# Altium footprint library MCU.PcbLib: 13 footprints
Each footprint in its own frame and in the unit in brackets; x right, y up, seen from the top. Pads: shape width x height; smd on the part's side, far side on the other; paste and mask are expansions set on the pad; w line width, h text height; cw(c..) or ccw(c..) is an arc to the next point about the centre after c.
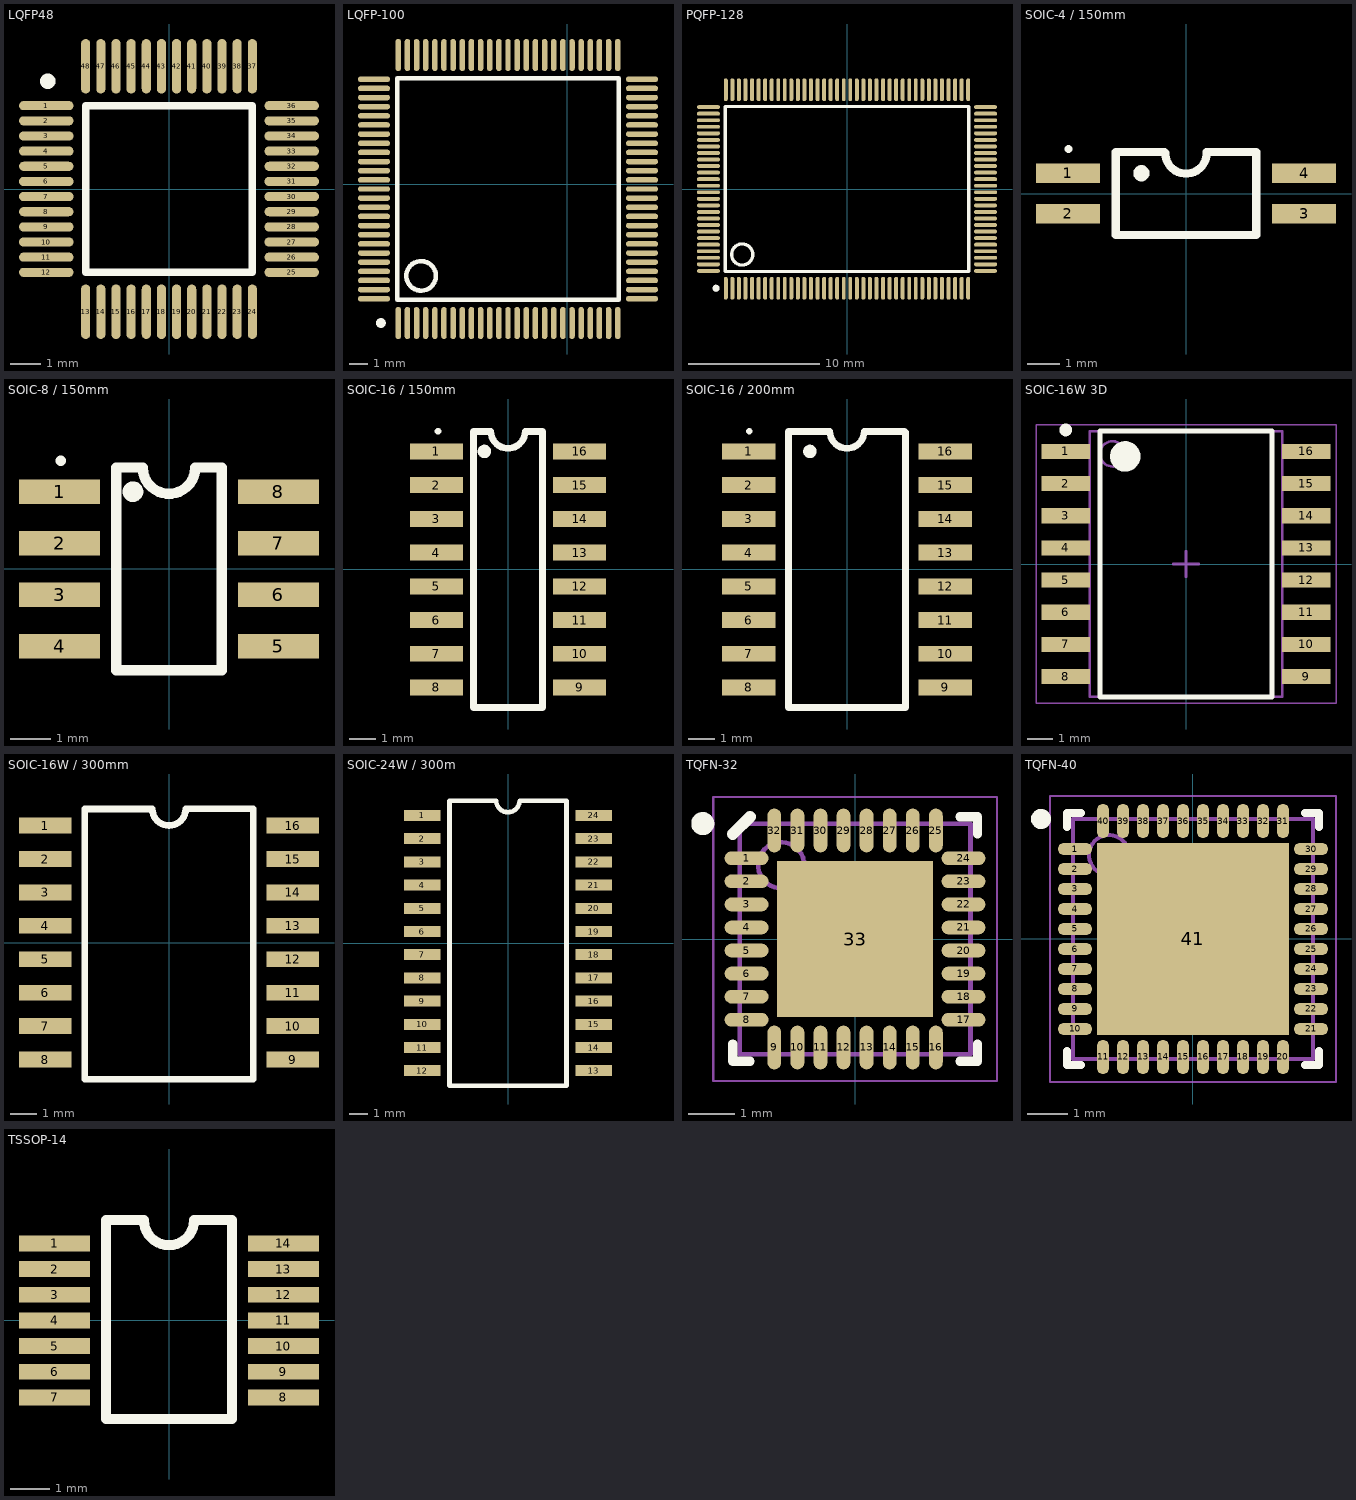
[diagram p0: the footprints below, top view; thin cyan lines are the x and y axes]

## LQFP48 [mm]
pads (48):
  oval 1.8x0.3 smd: 1(-4.05,2.75) 2(-4.05,2.25) 3(-4.05,1.75) 4(-4.05,1.25) 5(-4.05,0.75) 6(-4.05,0.25) 7(-4.05,-0.25) 8(-4.05,-0.75) 9(-4.05,-1.25) 10(-4.05,-1.75) 11(-4.05,-2.25) 12(-4.05,-2.75) 25(4.05,-2.75) 26(4.05,-2.25) 27(4.05,-1.75) 28(4.05,-1.25) 29(4.05,-0.75) 30(4.05,-0.25) 31(4.05,0.25) 32(4.05,0.75) 33(4.05,1.25) 34(4.05,1.75) 35(4.05,2.25) 36(4.05,2.75)
  oval 0.3x1.8 smd: 13(-2.75,-4.05) 14(-2.25,-4.05) 15(-1.75,-4.05) 16(-1.25,-4.05) 17(-0.75,-4.05) 18(-0.25,-4.05) 19(0.25,-4.05) 20(0.75,-4.05) 21(1.25,-4.05) 22(1.75,-4.05) 23(2.25,-4.05) 24(2.75,-4.05) 37(2.75,4.05) 38(2.25,4.05) 39(1.75,4.05) 40(1.25,4.05) 41(0.75,4.05) 42(0.25,4.05) 43(-0.25,4.05) 44(-0.75,4.05) 45(-1.25,4.05) 46(-1.75,4.05) 47(-2.25,4.05) 48(-2.75,4.05)
Top Overlay:
  circle w0.254: c-4,3.556 r0.127
  lines w0.254: -2.75,-2.75 -2.75,2.75 2.75,2.75 2.75,-2.75 -2.75,-2.75

## LQFP-100 [mm]
pads (100):
  oval 0.3x1.75 smd: 1(-9.25,-7.575) 2(-8.75,-7.575) 3(-8.25,-7.575) 4(-7.75,-7.575) 5(-7.25,-7.575) 6(-6.75,-7.575) 7(-6.25,-7.575) 8(-5.75,-7.575) 9(-5.25,-7.575) 10(-4.75,-7.575) 11(-4.25,-7.575) 12(-3.75,-7.575) 13(-3.25,-7.575) 14(-2.75,-7.575) 15(-2.25,-7.575) 16(-1.75,-7.575) 17(-1.25,-7.575) 18(-0.75,-7.575) 19(-0.25,-7.575) 20(0.25,-7.575) 21(0.75,-7.575) 22(1.25,-7.575) 23(1.75,-7.575) 24(2.25,-7.575) 25(2.75,-7.575) 51(2.75,7.075) 52(2.25,7.075) 53(1.75,7.075) 54(1.25,7.075) 55(0.75,7.075) 56(0.25,7.075) 57(-0.25,7.075) 58(-0.75,7.075) 59(-1.25,7.075) 60(-1.75,7.075) 61(-2.25,7.075) 62(-2.75,7.075) 63(-3.25,7.075) 64(-3.75,7.075) 65(-4.25,7.075) 66(-4.75,7.075) 67(-5.25,7.075) 68(-5.75,7.075) 69(-6.25,7.075) 70(-6.75,7.075) 71(-7.25,7.075) 72(-7.75,7.075) 73(-8.25,7.075) 74(-8.75,7.075) 75(-9.25,7.075)
  oval 1.75x0.3 smd: 26(4.075,-6.25) 27(4.075,-5.75) 28(4.075,-5.25) 29(4.075,-4.75) 30(4.075,-4.25) 31(4.075,-3.75) 32(4.075,-3.25) 33(4.075,-2.75) 34(4.075,-2.25) 35(4.075,-1.75) 36(4.075,-1.25) 37(4.075,-0.75) 38(4.075,-0.25) 39(4.075,0.25) 40(4.075,0.75) 41(4.075,1.25) 42(4.075,1.75) 43(4.075,2.25) 44(4.075,2.75) 45(4.075,3.25) 46(4.075,3.75) 47(4.075,4.25) 48(4.075,4.75) 49(4.075,5.25) 50(4.075,5.75) 76(-10.575,5.75) 77(-10.575,5.25) 78(-10.575,4.75) 79(-10.575,4.25) 80(-10.575,3.75) 81(-10.575,3.25) 82(-10.575,2.75) 83(-10.575,2.25) 84(-10.575,1.75) 85(-10.575,1.25) 86(-10.575,0.75) 87(-10.575,0.25) 88(-10.575,-0.25) 89(-10.575,-0.75) 90(-10.575,-1.25) 91(-10.575,-1.75) 92(-10.575,-2.25) 93(-10.575,-2.75) 94(-10.575,-3.25) 95(-10.575,-3.75) 96(-10.575,-4.25) 97(-10.575,-4.75) 98(-10.575,-5.25) 99(-10.575,-5.75) 100(-10.575,-6.25)
Top Overlay:
  circle w0.254: c-10.2,-7.575 r0.141
  circle w0.254: c-8,-5 r0.806
  lines w0.254: -9.3,-6.3 2.8,-6.3 2.8,5.8 -9.3,5.8 -9.3,-6.3

## PQFP-128 [mm]
pads (128):
  oval 0.3x1.75 smd: 1(-9.25,-7.575) 2(-8.75,-7.575) 3(-8.25,-7.575) 4(-7.75,-7.575) 5(-7.25,-7.575) 6(-6.75,-7.575) 7(-6.25,-7.575) 8(-5.75,-7.575) 9(-5.25,-7.575) 10(-4.75,-7.575) 11(-4.25,-7.575) 12(-3.75,-7.575) 13(-3.25,-7.575) 14(-2.75,-7.575) 15(-2.25,-7.575) 16(-1.75,-7.575) 17(-1.25,-7.575) 18(-0.75,-7.575) 19(-0.25,-7.575) 20(0.25,-7.575) 21(0.75,-7.575) 22(1.25,-7.575) 23(1.75,-7.575) 24(2.25,-7.575) 25(2.75,-7.575) 26(3.25,-7.575) 27(3.75,-7.575) 28(4.25,-7.575) 29(4.75,-7.575) 30(5.25,-7.575) 31(5.75,-7.575) 32(6.25,-7.575) 33(6.75,-7.575) 34(7.25,-7.575) 35(7.75,-7.575) 36(8.25,-7.575) 37(8.75,-7.575) 38(9.25,-7.575) 65(9.25,7.575) 66(8.75,7.575) 67(8.25,7.575) 68(7.75,7.575) 69(7.25,7.575) 70(6.75,7.575) 71(6.25,7.575) 72(5.75,7.575) 73(5.25,7.575) 74(4.75,7.575) 75(4.25,7.575) 76(3.75,7.575) 77(3.25,7.575) 78(2.75,7.575) 79(2.25,7.575) 80(1.75,7.575) 81(1.25,7.575) 82(0.75,7.575) 83(0.25,7.575) 84(-0.25,7.575) 85(-0.75,7.575) 86(-1.25,7.575) 87(-1.75,7.575) 88(-2.25,7.575) 89(-2.75,7.575) 90(-3.25,7.575) 91(-3.75,7.575) 92(-4.25,7.575) 93(-4.75,7.575) 94(-5.25,7.575) 95(-5.75,7.575) 96(-6.25,7.575) 97(-6.75,7.575) 98(-7.25,7.575) 99(-7.75,7.575) 100(-8.25,7.575) 101(-8.75,7.575) 102(-9.25,7.575)
  oval 1.75x0.3 smd: 39(10.575,-6.25) 40(10.575,-5.75) 41(10.575,-5.25) 42(10.575,-4.75) 43(10.575,-4.25) 44(10.575,-3.75) 45(10.575,-3.25) 46(10.575,-2.75) 47(10.575,-2.25) 48(10.575,-1.75) 49(10.575,-1.25) 50(10.575,-0.75) 51(10.575,-0.25) 52(10.575,0.25) 53(10.575,0.75) 54(10.575,1.25) 55(10.575,1.75) 56(10.575,2.25) 57(10.575,2.75) 58(10.575,3.25) 59(10.575,3.75) 60(10.575,4.25) 61(10.575,4.75) 62(10.575,5.25) 63(10.575,5.75) 64(10.575,6.25) 103(-10.575,6.25) 104(-10.575,5.75) 105(-10.575,5.25) 106(-10.575,4.75) 107(-10.575,4.25) 108(-10.575,3.75) 109(-10.575,3.25) 110(-10.575,2.75) 111(-10.575,2.25) 112(-10.575,1.75) 113(-10.575,1.25) 114(-10.575,0.75) 115(-10.575,0.25) 116(-10.575,-0.25) 117(-10.575,-0.75) 118(-10.575,-1.25) 119(-10.575,-1.75) 120(-10.575,-2.25) 121(-10.575,-2.75) 122(-10.575,-3.25) 123(-10.575,-3.75) 124(-10.575,-4.25) 125(-10.575,-4.75) 126(-10.575,-5.25) 127(-10.575,-5.75) 128(-10.575,-6.25)
Top Overlay:
  circle w0.254: c-8,-5 r0.806
  circle w0.254: c-10,-7.575 r0.141
  lines w0.254: -9.3,-6.3 9.3,-6.3 9.3,6.3 -9.3,6.3 -9.3,-6.3

## SOIC-4 / 150mm [mm]
pads (4):
  rect 2x0.6 smd: 1(-3.7,0.635) 2(-3.7,-0.635) 3(3.7,-0.635) 4(3.7,0.635)
Top Overlay:
  circle w0.254: c-1.397,0.635 r0.127
  lines w0.254: -0.678,1.3 -2.2,1.3 -2.2,-1.3 2.2,-1.3 2.2,1.3 ; -0.648,1.27 ccw(c0,1.27) 0.648,1.27 ; 0.648,1.3 2.17,1.3 ; -3.683,1.397 ccw(c-3.746,1.333) -3.683,1.397

## SOIC-8 / 150mm [mm]
pads (8):
  rect 2x0.6 smd: 1(-2.7,1.905) 2(-2.7,0.635) 3(-2.7,-0.635) 4(-2.7,-1.905) 5(2.7,-1.905) 6(2.7,-0.635) 7(2.7,0.635) 8(2.7,1.905)
Top Overlay:
  circle w0.254: c-0.889,1.905 r0.127
  lines w0.254: -0.678,2.5 -1.3,2.5 -1.3,-2.5 1.3,-2.5 1.3,2.5 0.648,2.5 cw(c0,2.5) -0.648,2.5 ; -2.667,2.667 ccw(c-2.73,2.603) -2.667,2.667

## SOIC-16 / 150mm [mm]
pads (16):
  rect 2x0.6 smd: 1(-2.7,4.445) 2(-2.7,3.175) 3(-2.7,1.905) 4(-2.7,0.635) 5(-2.7,-0.635) 6(-2.7,-1.905) 7(-2.7,-3.175) 8(-2.7,-4.445) 9(2.7,-4.445) 10(2.7,-3.175) 11(2.7,-1.905) 12(2.7,-0.635) 13(2.7,0.635) 14(2.7,1.905) 15(2.7,3.175) 16(2.7,4.445)
Top Overlay:
  circle w0.254: c-0.889,4.445 r0.127
  lines w0.254: -0.678,5.2 -1.3,5.2 -1.3,-5.2 1.3,-5.2 1.3,5.17 ; -0.648,5.207 ccw(c0,5.207) 0.648,5.207 ; 0.648,5.2 1.3,5.2 ; -2.636,5.207 ccw(c-2.7,5.143) -2.637,5.207

## SOIC-16 / 200mm [mm]
pads (16):
  rect 2x0.6 smd: 1(-3.7,4.445) 2(-3.7,3.175) 3(-3.7,1.905) 4(-3.7,0.635) 5(-3.7,-0.635) 6(-3.7,-1.905) 7(-3.7,-3.175) 8(-3.7,-4.445) 9(3.7,-4.445) 10(3.7,-3.175) 11(3.7,-1.905) 12(3.7,-0.635) 13(3.7,0.635) 14(3.7,1.905) 15(3.7,3.175) 16(3.7,4.445)
Top Overlay:
  circle w0.254: c-1.397,4.445 r0.127
  lines w0.254: -0.678,5.2 -2.2,5.2 -2.2,-5.2 2.2,-5.2 2.2,5.17 ; -0.648,5.207 ccw(c0,5.207) 0.648,5.207 ; 0.648,5.2 2.17,5.2 ; -3.683,5.207 ccw(c-3.746,5.143) -3.683,5.207

## SOIC-16W 3D [mm] "SOIC, 16-Leads, Body 10,30x7,50mm, Pitch 1,27mm, IPC Medium Density"
height 2.65
pads (16):
  rect 1.9x0.6 smd: 1(-4.75,4.445) 2(-4.75,3.175) 3(-4.75,1.905) 4(-4.75,0.635) 5(-4.75,-0.635) 6(-4.75,-1.905) 7(-4.75,-3.175) 8(-4.75,-4.445) 9(4.75,-4.445) 10(4.75,-3.175) 11(4.75,-1.905) 12(4.75,-0.635) 13(4.75,0.635) 14(4.75,1.905) 15(4.75,3.175) 16(4.75,4.445)
Top Overlay:
  circle w0.6: c-2.4,4.25 r0.3
  circle w0.25: c-4.75,5.295 r0.125
  lines w0.2: -3.4,-5.25 3.4,-5.25 3.4,5.25 -3.4,5.25 -3.4,-5.25
Mechanical 13:
  circle w0.1: c-2.9,4.35 r0.5
  lines w0.1: -3.8,-5.25 3.8,-5.25 3.8,5.25 -3.8,5.25 -3.8,-5.25
Mechanical 15:
  lines w0.05: -5.925,-5.5 5.925,-5.5 5.925,5.5 -5.925,5.5 -5.925,-5.5
  lines w0.1: -0.5,0 0.5,0 ; 0,-0.5 0,0.5
3D body "SOIC127P1030X265-16N.step": height 2.65, standoff 0, extent -5.15,-5.25 5.15,5.25

## SOIC-16W / 300mm [mm]
pads (16):
  rect 2x0.6 smd: 1(-4.7,4.445) 2(-4.7,3.175) 3(-4.7,1.905) 4(-4.7,0.635) 5(-4.7,-0.635) 6(-4.7,-1.905) 7(-4.7,-3.175) 8(-4.7,-4.445) 9(4.7,-4.445) 10(4.7,-3.175) 11(4.7,-1.905) 12(4.7,-0.635) 13(4.7,0.635) 14(4.7,1.905) 15(4.7,3.175) 16(4.7,4.445)
Top Overlay:
  lines w0.254: -0.642,5.073 -1.282,5.073 -3.2,5.073 -3.2,-5.2 3.2,-5.2 3.2,5.08 0.635,5.08 cw(c0,5.08) 0,4.445 cw(c0,5.08) -0.635,5.08

## SOIC-24W / 300m [mm]
pads (24):
  rect 2x0.6 smd: 1(-4.7,6.985) 2(-4.7,5.715) 3(-4.7,4.445) 4(-4.7,3.175) 5(-4.7,1.905) 6(-4.7,0.635) 7(-4.7,-0.635) 8(-4.7,-1.905) 9(-4.7,-3.175) 10(-4.7,-4.445) 11(-4.7,-5.715) 12(-4.7,-6.985) 13(4.7,-6.985) 14(4.7,-5.715) 15(4.7,-4.445) 16(4.7,-3.175) 17(4.7,-1.905) 18(4.7,-0.635) 19(4.7,0.635) 20(4.7,1.905) 21(4.7,3.175) 22(4.7,4.445) 23(4.7,5.715) 24(4.7,6.985)
Top Overlay:
  lines w0.254: -0.007,7.165 cw(c-0.007,7.8) -0.642,7.8 -1.282,7.8 -3.2,7.8 -3.2,-7.8 3.2,-7.8 3.2,7.8 0.635,7.8 cw(c0,7.8) 0,7.165

## TQFN-32 [mm] "QFN, 32-Leads, Body 5,00x5,00mm, Pitch 0,50mm, Thermal Pad 3,38x3,38mm, IPC Medium Density"
height 0.8
pads (33):
  oval 0.95x0.3 smd: 1(-2.35,1.75) 2(-2.35,1.25) 3(-2.35,0.75) 4(-2.35,0.25) 5(-2.35,-0.25) 6(-2.35,-0.75) 7(-2.35,-1.25) 8(-2.35,-1.75) 17(2.35,-1.75) 18(2.35,-1.25) 19(2.35,-0.75) 20(2.35,-0.25) 21(2.35,0.25) 22(2.35,0.75) 23(2.35,1.25) 24(2.35,1.75)
  oval 0.3x0.95 smd: 9(-1.75,-2.35) 10(-1.25,-2.35) 11(-0.75,-2.35) 12(-0.25,-2.35) 13(0.25,-2.35) 14(0.75,-2.35) 15(1.25,-2.35) 16(1.75,-2.35) 25(1.75,2.35) 26(1.25,2.35) 27(0.75,2.35) 28(0.25,2.35) 29(-0.25,2.35) 30(-0.75,2.35) 31(-1.25,2.35) 32(-1.75,2.35)
  rect 3.38x3.38 smd: 33(0,0)
Top Overlay:
  circle w0.25: c-3.3,2.5 r0.125
  lines w0.2: -2.65,-2.275 -2.65,-2.65 -2.275,-2.65 ; 2.275,-2.65 2.65,-2.65 2.65,-2.275 ; 2.275,2.65 2.65,2.65 2.65,2.275
  lines w0.254: -2.65,2.275 -2.275,2.65
Mechanical 13:
  circle w0.1: c-1.6,1.6 r0.5
  lines w0.1: -2.5,-2.5 -2.5,2.5 2.5,2.5 2.5,-2.5 -2.5,-2.5
Mechanical 15:
  lines w0.05: -3.075,-3.075 -3.075,3.075 3.075,3.075 3.075,-3.075 -3.075,-3.075
  lines w0.1: -0.5,0 0.5,0 ; 0,-0.5 0,0.5
3D body: height 0.8, standoff 0.01, extent -2.5,-2.5 2.5,2.5

## TQFN-40 [mm] "QFN, 40-Leads, Body 6,00x6,00mm, Pitch 0,50mm, Thermal Pad 4,80x4,80mm, IPC Medium Density"
height 0.8
pads (41):
  oval 0.85x0.3 smd: 1(-2.95,2.25) 2(-2.95,1.75) 3(-2.95,1.25) 4(-2.95,0.75) 5(-2.95,0.25) 6(-2.95,-0.25) 7(-2.95,-0.75) 8(-2.95,-1.25) 9(-2.95,-1.75) 10(-2.95,-2.25) 21(2.95,-2.25) 22(2.95,-1.75) 23(2.95,-1.25) 24(2.95,-0.75) 25(2.95,-0.25) 26(2.95,0.25) 27(2.95,0.75) 28(2.95,1.25) 29(2.95,1.75) 30(2.95,2.25)
  oval 0.3x0.85 smd: 11(-2.25,-2.95) 12(-1.75,-2.95) 13(-1.25,-2.95) 14(-0.75,-2.95) 15(-0.25,-2.95) 16(0.25,-2.95) 17(0.75,-2.95) 18(1.25,-2.95) 19(1.75,-2.95) 20(2.25,-2.95) 31(2.25,2.95) 32(1.75,2.95) 33(1.25,2.95) 34(0.75,2.95) 35(0.25,2.95) 36(-0.25,2.95) 37(-0.75,2.95) 38(-1.25,2.95) 39(-1.75,2.95) 40(-2.25,2.95)
  rect 4.8x4.8 smd: 41(0,0)
Top Overlay:
  circle w0.25: c-3.8,3 r0.125
  lines w0.2: -3.15,-2.8 -3.15,-3.15 -2.8,-3.15 ; -3.15,2.8 -3.15,3.15 -2.8,3.15 ; 2.8,-3.15 3.15,-3.15 3.15,-2.8 ; 2.8,3.15 3.15,3.15 3.15,2.8
Mechanical 13:
  circle w0.1: c-2.1,2.1 r0.5
  lines w0.1: -3,-3 -3,3 3,3 3,-3 -3,-3
Mechanical 15:
  lines w0.05: -3.575,-3.575 -3.575,3.575 3.575,3.575 3.575,-3.575 -3.575,-3.575
  lines w0.1: -0.5,0 0.5,0 ; 0,-0.5 0,0.5
3D body: height 0.8, standoff 0.01, extent -3,-3 3,3

## TSSOP-14 [mm] "TSSOP, 14-Leads"
height 2.65
pads (14):
  rect 1.8x0.4 smd: 1(-2.9,1.95) 2(-2.9,1.3) 3(-2.9,0.65) 4(-2.9,0) 5(-2.9,-0.65) 6(-2.9,-1.3) 7(-2.9,-1.95) 8(2.9,-1.95) 9(2.9,-1.3) 10(2.9,-0.65) 11(2.9,0) 12(2.9,0.65) 13(2.9,1.3) 14(2.9,1.95)
Top Overlay:
  lines w0.254: -1.6,2.5 -1.6,-2.5 1.6,-2.5 1.6,2.5 ; -1.6,2.54 -0.635,2.54 ccw(c0,2.54) 0,1.905 ccw(c0,2.54) 0.635,2.54 1.6,2.54